# Altium schematic symbol library psdc_SchLib.SchLib: 7 symbols
Pins are listed as number, name and electrical type; pins without a type are passive.

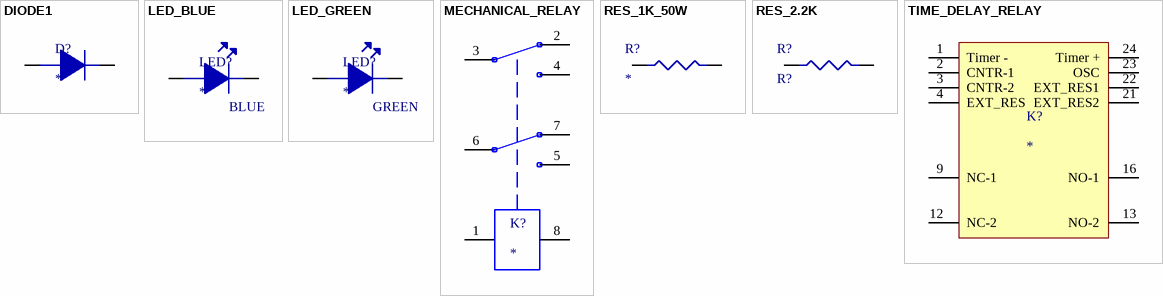
[diagram p0: symbols DIODE1 to TIME_DELAY_RELAY]

## DIODE1
designator D?
pins: 1, 2

## LED_BLUE
designator LED?
pins: 1, 2
text: BLUE

## LED_GREEN
designator LED?
pins: 1, 2
text: GREEN

## MECHANICAL_RELAY
designator K?
pins: 1, 2, 3, 4, 5, 6, 7, 8

## RES_1K_50W
designator R?
pins: 1, 2

## RES_2.2K
designator R?, comment R?
pins: 1, 2

## TIME_DELAY_RELAY
designator K?
pins: 1 Timer -, 2 CNTR-1, 3 CNTR-2, 4 EXT_RES, 9 NC-1, 12 NC-2, 13 NO-2, 16 NO-1, 21 EXT_RES2, 22 EXT_RES1, 23 OSC, 24 Timer +